# EAGLE library part M.2-NO-KEY (library M.2-Templates)
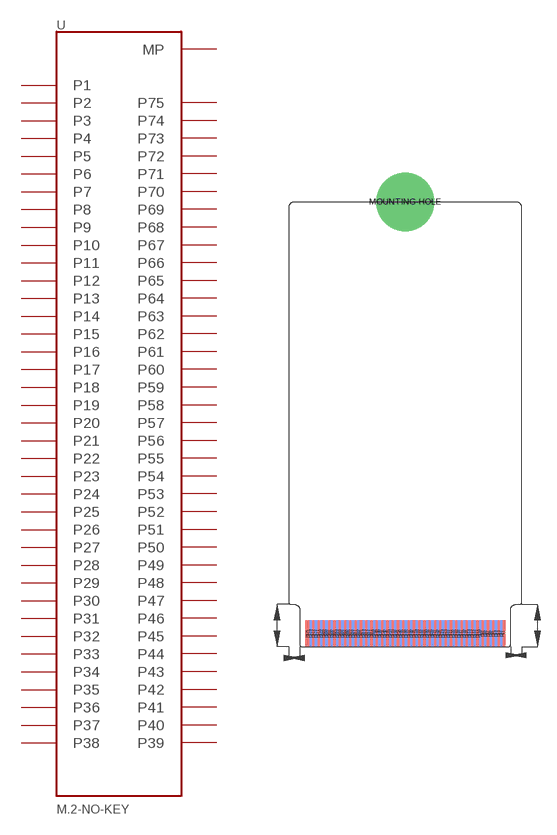
[diagram p2: symbol with the pads of M.2-KEY-BLANK; footprint M.2-KEY-BLANK]

Designator prefix -

## M.2-NO-KEY  [M.2-KEY-BLANK]
MOUNTING-HOLE  MP
P$1  P1
P$2  P2
P$3  P3
P$4  P4
P$5  P5
P$6  P6
P$7  P7
P$8  P8
P$9  P9
P$10  P10
P$11  P11
P$12  P12
P$13  P13
P$14  P14
P$15  P15
P$16  P16
P$17  P17
P$18  P18
P$19  P19
P$20  P20
P$21  P21
P$22  P22
P$23  P23
P$24  P24
P$25  P25
P$26  P26
P$27  P27
P$28  P28
P$29  P29
P$30  P30
P$31  P31
P$32  P32
P$33  P33
P$34  P34
P$35  P35
P$36  P36
P$37  P37
P$38  P38
P$39  P39
P$40  P40
P$41  P41
P$42  P42
P$43  P43
P$44  P44
P$45  P45
P$46  P46
P$47  P47
P$48  P48
P$49  P49
P$50  P50
P$51  P51
P$52  P52
P$53  P53
P$54  P54
P$55  P55
P$56  P56
P$57  P57
P$58  P58
P$59  P59
P$60  P60
P$61  P61
P$62  P62
P$63  P63
P$64  P64
P$65  P65
P$66  P66
P$67  P67
P$68  P68
P$69  P69
P$70  P70
P$71  P71
P$72  P72
P$73  P73
P$74  P74
P$75  P75

## Footprint M.2-KEY-BLANK (pad centres in mm)
drill 3.5 pad 5.5: MOUNTING-HOLE 0,42
smd 0.35 x 2.5: P$1 9.25,1.25; P$3 8.75,1.25; P$5 8.25,1.25; P$7 7.75,1.25; P$9 7.25,1.25; P$11 6.75,1.25; P$13 6.25,1.25; P$15 5.75,1.25; P$17 5.25,1.25; P$19 4.75,1.25; P$21 4.25,1.25; P$23 3.75,1.25; P$25 3.25,1.25; P$27 2.75,1.25; P$29 2.25,1.25; P$31 1.75,1.25; P$33 1.25,1.25; P$35 0.75,1.25; P$37 0.25,1.25; P$39 -0.25,1.25; P$41 -0.75,1.25; P$43 -1.25,1.25; P$45 -1.75,1.25; P$47 -2.25,1.25; P$49 -2.75,1.25; P$51 -3.25,1.25; P$53 -3.75,1.25; P$55 -4.25,1.25; P$57 -4.75,1.25; P$59 -5.25,1.25; P$61 -5.75,1.25; P$63 -6.25,1.25; P$65 -6.75,1.25; P$67 -7.25,1.25; P$69 -7.75,1.25; P$71 -8.25,1.25; P$73 -8.75,1.25; P$75 -9.25,1.25
smd 0.35 x 2.5 bottom: P$2 9,1.25; P$4 8.5,1.25; P$6 8,1.25; P$8 7.5,1.25; P$10 7,1.25; P$12 6.5,1.25; P$14 6,1.25; P$16 5.5,1.25; P$18 5,1.25; P$20 4.5,1.25; P$22 4,1.25; P$24 3.5,1.25; P$26 3,1.25; P$28 2.5,1.25; P$30 2,1.25; P$32 1.5,1.25; P$34 1,1.25; P$36 0.5,1.25; P$38 0,1.25; P$40 -0.5,1.25; P$42 -1,1.25; P$44 -1.5,1.25; P$46 -2,1.25; P$48 -2.5,1.25; P$50 -3,1.25; P$52 -3.5,1.25; P$54 -4,1.25; P$56 -4.5,1.25; P$58 -5,1.25; P$60 -5.5,1.25; P$62 -6,1.25; P$64 -6.5,1.25; P$66 -7,1.25; P$68 -7.5,1.25; P$70 -8,1.25; P$72 -8.5,1.25; P$74 -9,1.25